# Altium integrated library Linear Technology Power Management Supercapacitor Chargers.IntLib: 96 symbols (part 1 of 8)
Pins are listed as number, name and electrical type; pins without a type are passive.

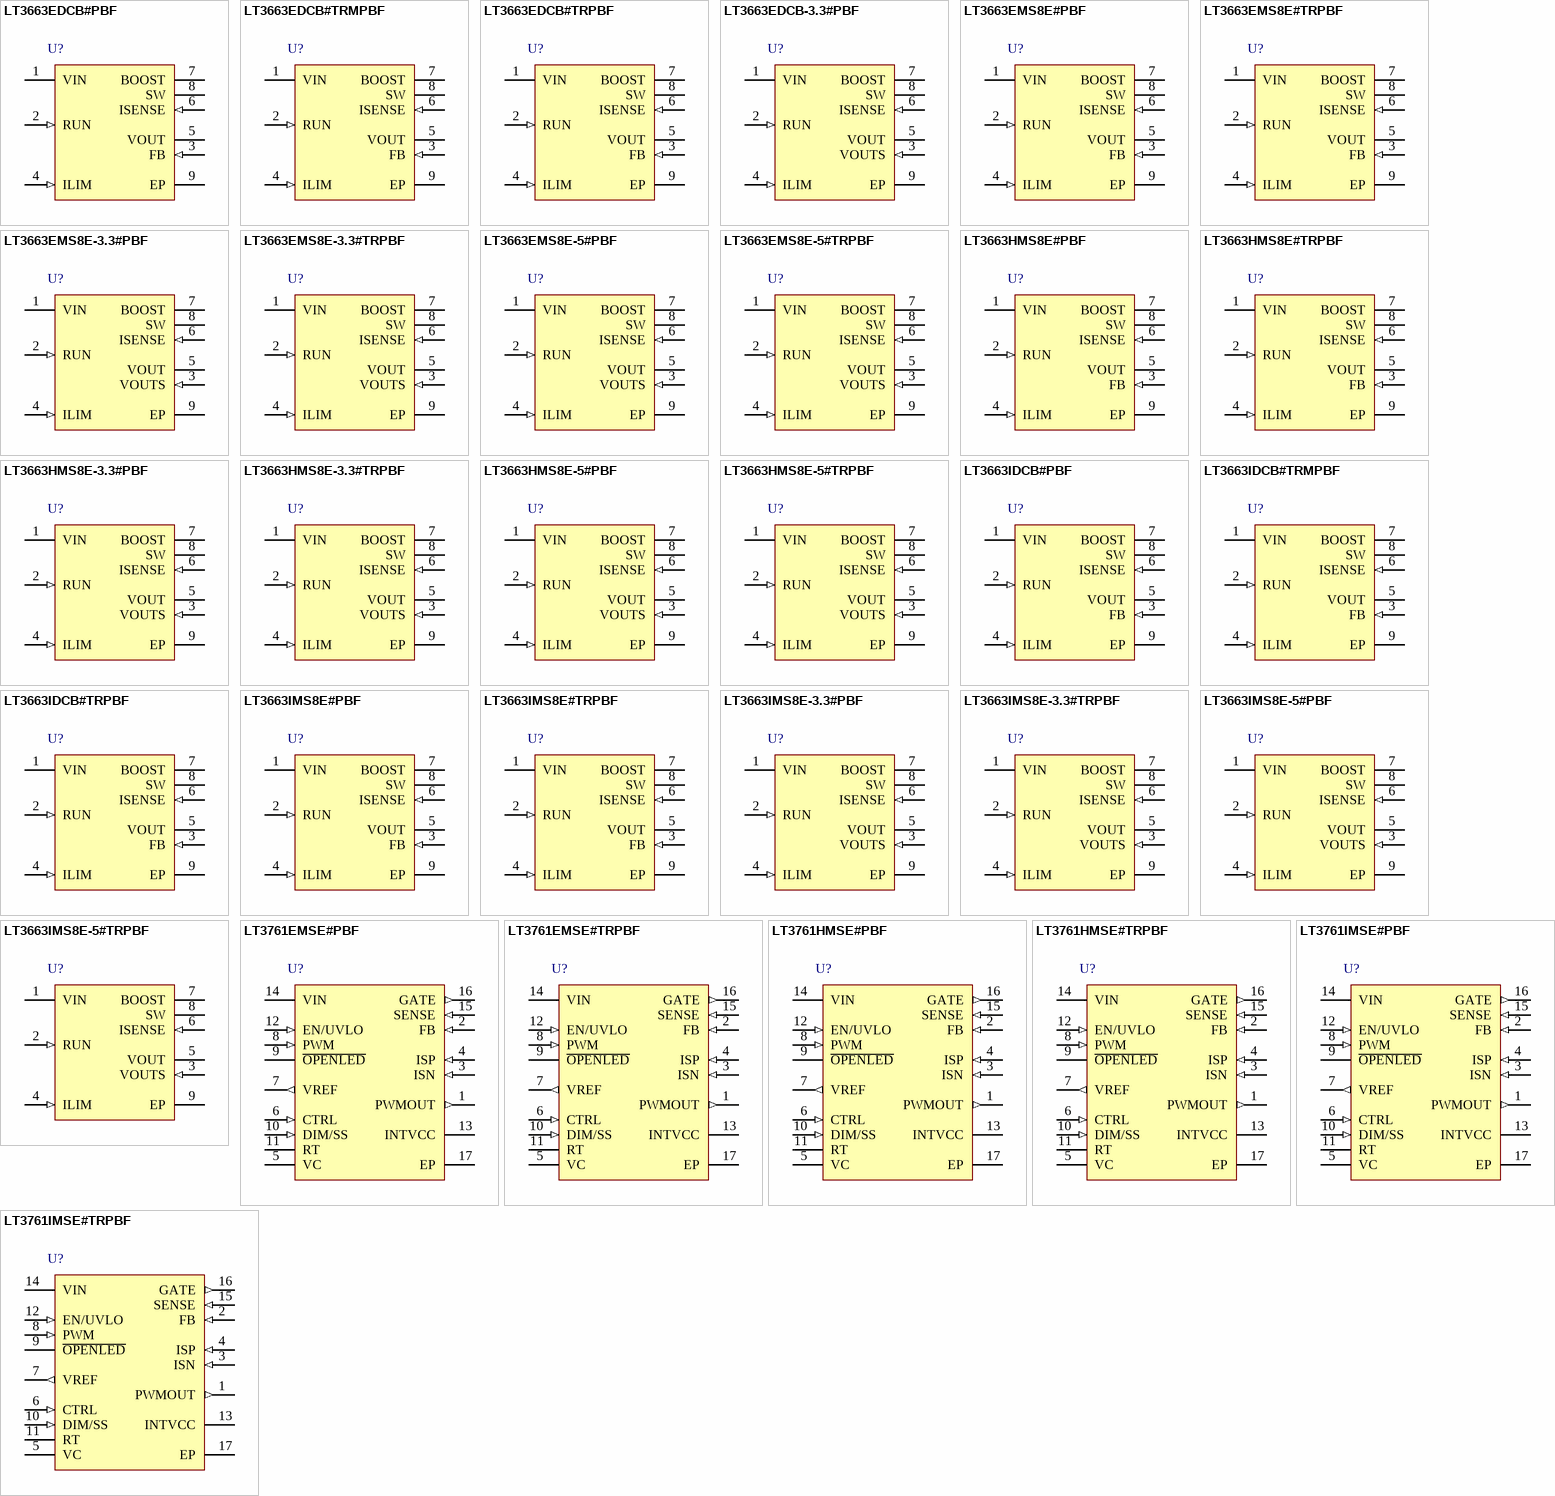
[diagram p0: symbols LT3663EDCB#PBF to LT3761IMSE#TRPBF]

## LT3663EDCB#PBF
designator U?
1.2 A, 1.5 MHz Step-Down Switching Regulator with Output Current Limit, 7 to 36 V Vin, 5.5 V Vout MAX, 8-pin SON (DCB-8), -40 to 125 degC, Pb-Free; Manufacturer: Linear Technology; PartNumber: LT3663EDCB#PBF; Output Current(A): 1.2; Topology: Buck; DatasheetVersion: Rev. C; PackageVersion: Rev. A, 06/2010; PackageReference: DCB-8; PackageDescription: 8-Pin Plastic DFN, Body 2 x 3 mm, Pitch 0.45 mm; RoHS: TRUE; Mounting Technology: Surface Mount; ComponentLink1Description: Manufacturer URL; ComponentLink1URL: http://www.linear.com/; ComponentLink2Description: Datasheet; ComponentLink2URL: http://cds.linear.com/docs/en/datasheet/3663fc.pdf; ComponentLink3Description: Package Specification; ComponentLink3URL: http://cds.linear.com/docs/en/packaging/DFN_8_05-08-1718.pdf
footprint LT-DCB-8_V (SON, 8-Leads, Body 3x2mm, Pitch 0.45mm, Thermal Pad 1.65x1.35mm)
pins: 1 VIN (power) "The VIN pin supplies current to the LT3663’s internal regulator and internal power switch. Capacitively bypass the pin to ground.", 2 RUN (in) "The Run pin is used to put the LT3663 into shutdown mode. Tie to ground to shut down the LT3663. Tie to 2.5V or more for normal operation. If the shutdown feature is not used, connect this pin to VIN.", 3 FB (in) "The LT3663 regulates the FB pin to 0.8V. Connect the feedback resistor divider tap to this pin.", 4 ILIM (in) "Output Current Limit Program Pin. Connect a resistor to ground to program the regulator output current limit.", 5 VOUT (power) "The VOUT pin is connected to the negative terminal of the internal output current limit sense resistor.", 6 ISENSE (in) "The ISENSE pin is the positive input to the internal output current limit sense resistor. The ISENSE pin is also the anode to the internal BOOST diode.", 7 BOOST "The BOOST pin is used to provide a drive voltage, higher than the input voltage, to the internal power switch. The BOOST pin is also internally connected to the cathode of the BOOST diode.", 8 SW "The SW pin is the output of the internal power switch. Connect this pin to the inductor, catch diode and boost capacitor.", 9 EP (power) "Ground. The exposed pad must be soldered to the PCB and electrically connected to ground. Use a large ground plane and thermal vias to optimize thermal performance."

## LT3663EDCB#TRMPBF
designator U?
1.2 A, 1.5 MHz Step-Down Switching Regulator with Output Current Limit, 7 to 36 V Vin, 5.5 V Vout MAX, 8-pin SON (DCB-8), -40 to 125 degC, Pb-Free, Mini Tape and Reel; Manufacturer: Linear Technology; PartNumber: LT3663EDCB#TRMPBF; Output Current(A): 1.2; Topology: Buck; DatasheetVersion: Rev. C; PackageVersion: Rev. A, 06/2010; PackageReference: DCB-8; PackageDescription: 8-Pin Plastic DFN, Body 2 x 3 mm, Pitch 0.45 mm; Supplier 1: Digi-Key; Supplier Part Number 1: LT3663EDCB#TRMPBFTR-ND; Supplier 2: Digi-Key; Supplier Part Number 2: LT3663EDCB#TRMPBFCT-ND; Supplier 3: Digi-Key; Supplier Part Number 3: LT3663EDCB#TRMPBFDKR-ND; Packing: Mini Tape and Reel; RoHS: TRUE; Mounting Technology: Surface Mount; ComponentLink1Description: Manufacturer URL; ComponentLink1URL: http://www.linear.com/; ComponentLink2Description: Datasheet; ComponentLink2URL: http://cds.linear.com/docs/en/datasheet/3663fc.pdf; ComponentLink3Description: Package Specification; ComponentLink3URL: http://cds.linear.com/docs/en/packaging/DFN_8_05-08-1718.pdf
footprint LT-DCB-8_V (SON, 8-Leads, Body 3x2mm, Pitch 0.45mm, Thermal Pad 1.65x1.35mm)
pins: 1 VIN (power) "The VIN pin supplies current to the LT3663’s internal regulator and internal power switch. Capacitively bypass the pin to ground.", 2 RUN (in) "The Run pin is used to put the LT3663 into shutdown mode. Tie to ground to shut down the LT3663. Tie to 2.5V or more for normal operation. If the shutdown feature is not used, connect this pin to VIN.", 3 FB (in) "The LT3663 regulates the FB pin to 0.8V. Connect the feedback resistor divider tap to this pin.", 4 ILIM (in) "Output Current Limit Program Pin. Connect a resistor to ground to program the regulator output current limit.", 5 VOUT (power) "The VOUT pin is connected to the negative terminal of the internal output current limit sense resistor.", 6 ISENSE (in) "The ISENSE pin is the positive input to the internal output current limit sense resistor. The ISENSE pin is also the anode to the internal BOOST diode.", 7 BOOST "The BOOST pin is used to provide a drive voltage, higher than the input voltage, to the internal power switch. The BOOST pin is also internally connected to the cathode of the BOOST diode.", 8 SW "The SW pin is the output of the internal power switch. Connect this pin to the inductor, catch diode and boost capacitor.", 9 EP (power) "Ground. The exposed pad must be soldered to the PCB and electrically connected to ground. Use a large ground plane and thermal vias to optimize thermal performance."

## LT3663EDCB#TRPBF
designator U?
1.2 A, 1.5 MHz Step-Down Switching Regulator with Output Current Limit, 7 to 36 V Vin, 5.5 V Vout MAX, 8-pin SON (DCB-8), -40 to 125 degC, Pb-Free, Tape and Reel; Manufacturer: Linear Technology; PartNumber: LT3663EDCB#TRPBF; Output Current(A): 1.2; Topology: Buck; DatasheetVersion: Rev. C; PackageVersion: Rev. A, 06/2010; PackageReference: DCB-8; PackageDescription: 8-Pin Plastic DFN, Body 2 x 3 mm, Pitch 0.45 mm; Supplier 1: Digi-Key; Supplier Part Number 1: LT3663EDCB#TRPBF-ND; Packing: Tape and Reel; RoHS: TRUE; Mounting Technology: Surface Mount; ComponentLink1Description: Manufacturer URL; ComponentLink1URL: http://www.linear.com/; ComponentLink2Description: Datasheet; ComponentLink2URL: http://cds.linear.com/docs/en/datasheet/3663fc.pdf; ComponentLink3Description: Package Specification; ComponentLink3URL: http://cds.linear.com/docs/en/packaging/DFN_8_05-08-1718.pdf
footprint LT-DCB-8_V (SON, 8-Leads, Body 3x2mm, Pitch 0.45mm, Thermal Pad 1.65x1.35mm)
pins: 1 VIN (power) "The VIN pin supplies current to the LT3663’s internal regulator and internal power switch. Capacitively bypass the pin to ground.", 2 RUN (in) "The Run pin is used to put the LT3663 into shutdown mode. Tie to ground to shut down the LT3663. Tie to 2.5V or more for normal operation. If the shutdown feature is not used, connect this pin to VIN.", 3 FB (in) "The LT3663 regulates the FB pin to 0.8V. Connect the feedback resistor divider tap to this pin.", 4 ILIM (in) "Output Current Limit Program Pin. Connect a resistor to ground to program the regulator output current limit.", 5 VOUT (power) "The VOUT pin is connected to the negative terminal of the internal output current limit sense resistor.", 6 ISENSE (in) "The ISENSE pin is the positive input to the internal output current limit sense resistor. The ISENSE pin is also the anode to the internal BOOST diode.", 7 BOOST "The BOOST pin is used to provide a drive voltage, higher than the input voltage, to the internal power switch. The BOOST pin is also internally connected to the cathode of the BOOST diode.", 8 SW "The SW pin is the output of the internal power switch. Connect this pin to the inductor, catch diode and boost capacitor.", 9 EP (power) "Ground. The exposed pad must be soldered to the PCB and electrically connected to ground. Use a large ground plane and thermal vias to optimize thermal performance."

## LT3663EDCB-3.3#PBF
designator U?
1.2 A, 1.5 MHz Step-Down Switching Regulator with Output Current Limit, 7 to 36 V Vin, 3.3 V Vout MAX, 8-pin SON (DCB-8), -40 to 125 degC, Pb-Free; Manufacturer: Linear Technology; PartNumber: LT3663EDCB-3.3#PBF; Output Current(A): 1.2; Topology: Buck; DatasheetVersion: Rev. C; PackageVersion: Rev. A, 06/2010; PackageReference: DCB-8; PackageDescription: 8-Pin Plastic DFN, Body 2 x 3 mm, Pitch 0.45 mm; RoHS: TRUE; Mounting Technology: Surface Mount; ComponentLink1Description: Manufacturer URL; ComponentLink1URL: http://www.linear.com/; ComponentLink2Description: Datasheet; ComponentLink2URL: http://cds.linear.com/docs/en/datasheet/3663fc.pdf; ComponentLink3Description: Package Specification; ComponentLink3URL: http://cds.linear.com/docs/en/packaging/DFN_8_05-08-1718.pdf
footprint LT-DCB-8_V (SON, 8-Leads, Body 3x2mm, Pitch 0.45mm, Thermal Pad 1.65x1.35mm)
pins: 1 VIN (power) "The VIN pin supplies current to the LT3663’s internal regulator and internal power switch. Capacitively bypass the pin to ground.", 2 RUN (in) "The Run pin is used to put the LT3663 into shutdown mode. Tie to ground to shut down the LT3663. Tie to 2.5V or more for normal operation. If the shutdown feature is not used, connect this pin to VIN.", 3 VOUTS (in) "Output Voltage Sense Pin. Connect to the positive terminal of the output capacitor.", 4 ILIM (in) "Output Current Limit Program Pin. Connect a resistor to ground to program the regulator output current limit.", 5 VOUT (power) "The VOUT pin is connected to the negative terminal of the internal output current limit sense resistor.", 6 ISENSE (in) "The ISENSE pin is the positive input to the internal output current limit sense resistor. The ISENSE pin is also the anode to the internal BOOST diode.", 7 BOOST "The BOOST pin is used to provide a drive voltage, higher than the input voltage, to the internal power switch. The BOOST pin is also internally connected to the cathode of the BOOST diode.", 8 SW "The SW pin is the output of the internal power switch. Connect this pin to the inductor, catch diode and boost capacitor.", 9 EP (power) "Ground. The exposed pad must be soldered to the PCB and electrically connected to ground. Use a large ground plane and thermal vias to optimize thermal performance."

## LT3663EMS8E#PBF
designator U?
1.2 A, 1.5 MHz Step-Down Switching Regulator with Output Current Limit, 7 to 36 V Vin, 5.5 V Vout MAX, 8-pin SOP (MS8E-8-EDP), -40 to 125 degC, Pb-Free; Manufacturer: Linear Technology; PartNumber: LT3663EMS8E#PBF; Output Current(A): 1.2; Topology: Buck; DatasheetVersion: Rev. C; PackageVersion: Rev. J, 10/2011; PackageReference: MS8E-8; PackageDescription: 8-Pin Plastic MSOP, Body 3.00 x 3.00 mm. Pitch 0.65 mm; Supplier 1: Digi-Key; Supplier Part Number 1: LT3663EMS8E#PBF-ND; Supplier 2: Farnell; Supplier Part Number 2: 1839230; Supplier 3: Newark; Supplier Part Number 3: 51R1540; RoHS: TRUE; Mounting Technology: Surface Mount; ComponentLink1Description: Manufacturer URL; ComponentLink1URL: http://www.linear.com/; ComponentLink2Description: Datasheet; ComponentLink2URL: http://cds.linear.com/docs/en/datasheet/3663fc.pdf; ComponentLink3Description: Package Specification; ComponentLink3URL: http://cds.linear.com/docs/en/packaging/05081662_K_MS8E.pdf
footprint LT-MS8E-8-EDP_N (SOP, 8-Leads, Body 3.1x3.1mm, Pitch 0.65mm, Thermal Pad 1.88x1.68mm, IPC Medium Density)
footprint LT-MS8E-8-EDP_L (SOP, 8-Leads, Body 3.1x3.1mm, Pitch 0.65mm, Thermal Pad 1.88x1.68mm, IPC High Density)
footprint LT-MS8E-8-EDP_M (SOP, 8-Leads, Body 3.1x3.1mm, Pitch 0.65mm, Thermal Pad 1.88x1.68mm, IPC Low Density)
pins: 1 VIN (power) "The VIN pin supplies current to the LT3663’s internal regulator and internal power switch. Capacitively bypass the pin to ground.", 2 RUN (in) "The Run pin is used to put the LT3663 into shutdown mode. Tie to ground to shut down the LT3663. Tie to 2.5V or more for normal operation. If the shutdown feature is not used, connect this pin to VIN.", 3 FB (in) "The LT3663 regulates the FB pin to 0.8V. Connect the feedback resistor divider tap to this pin.", 4 ILIM (in) "Output Current Limit Program Pin. Connect a resistor to ground to program the regulator output current limit.", 5 VOUT (power) "The VOUT pin is connected to the negative terminal of the internal output current limit sense resistor.", 6 ISENSE (in) "The ISENSE pin is the positive input to the internal output current limit sense resistor. The ISENSE pin is also the anode to the internal BOOST diode.", 7 BOOST "The BOOST pin is used to provide a drive voltage, higher than the input voltage, to the internal power switch. The BOOST pin is also internally connected to the cathode of the BOOST diode.", 8 SW "The SW pin is the output of the internal power switch. Connect this pin to the inductor, catch diode and boost capacitor.", 9 EP (power) "Ground. The exposed pad must be soldered to the PCB and electrically connected to ground. Use a large ground plane and thermal vias to optimize thermal performance."

## LT3663EMS8E#TRPBF
designator U?
1.2 A, 1.5 MHz Step-Down Switching Regulator with Output Current Limit, 7 to 36 V Vin, 5.5 V Vout MAX, 8-pin SOP (MS8E-8-EDP), -40 to 125 degC, Pb-Free, Tape and Reel; Manufacturer: Linear Technology; PartNumber: LT3663EMS8E#TRPBF; Output Current(A): 1.2; Topology: Buck; DatasheetVersion: Rev. C; PackageVersion: Rev. J, 10/2011; PackageReference: MS8E-8; PackageDescription: 8-Pin Plastic MSOP, Body 3.00 x 3.00 mm. Pitch 0.65 mm; Supplier 1: Digi-Key; Supplier Part Number 1: LT3663EMS8E#TRPBF-ND; Packing: Tape and Reel; RoHS: TRUE; Mounting Technology: Surface Mount; ComponentLink1Description: Manufacturer URL; ComponentLink1URL: http://www.linear.com/; ComponentLink2Description: Datasheet; ComponentLink2URL: http://cds.linear.com/docs/en/datasheet/3663fc.pdf; ComponentLink3Description: Package Specification; ComponentLink3URL: http://cds.linear.com/docs/en/packaging/05081662_K_MS8E.pdf
footprint LT-MS8E-8-EDP_N (SOP, 8-Leads, Body 3.1x3.1mm, Pitch 0.65mm, Thermal Pad 1.88x1.68mm, IPC Medium Density)
footprint LT-MS8E-8-EDP_L (SOP, 8-Leads, Body 3.1x3.1mm, Pitch 0.65mm, Thermal Pad 1.88x1.68mm, IPC High Density)
footprint LT-MS8E-8-EDP_M (SOP, 8-Leads, Body 3.1x3.1mm, Pitch 0.65mm, Thermal Pad 1.88x1.68mm, IPC Low Density)
pins: 1 VIN (power) "The VIN pin supplies current to the LT3663’s internal regulator and internal power switch. Capacitively bypass the pin to ground.", 2 RUN (in) "The Run pin is used to put the LT3663 into shutdown mode. Tie to ground to shut down the LT3663. Tie to 2.5V or more for normal operation. If the shutdown feature is not used, connect this pin to VIN.", 3 FB (in) "The LT3663 regulates the FB pin to 0.8V. Connect the feedback resistor divider tap to this pin.", 4 ILIM (in) "Output Current Limit Program Pin. Connect a resistor to ground to program the regulator output current limit.", 5 VOUT (power) "The VOUT pin is connected to the negative terminal of the internal output current limit sense resistor.", 6 ISENSE (in) "The ISENSE pin is the positive input to the internal output current limit sense resistor. The ISENSE pin is also the anode to the internal BOOST diode.", 7 BOOST "The BOOST pin is used to provide a drive voltage, higher than the input voltage, to the internal power switch. The BOOST pin is also internally connected to the cathode of the BOOST diode.", 8 SW "The SW pin is the output of the internal power switch. Connect this pin to the inductor, catch diode and boost capacitor.", 9 EP (power) "Ground. The exposed pad must be soldered to the PCB and electrically connected to ground. Use a large ground plane and thermal vias to optimize thermal performance."

## LT3663EMS8E-3.3#PBF
designator U?
1.2 A, 1.5 MHz Step-Down Switching Regulator with Output Current Limit, 7 to 36 V Vin, 3.3 V Vout MAX, 8-pin SOP (MS8E-8-EDP), -40 to 125 degC, Pb-Free; Manufacturer: Linear Technology; PartNumber: LT3663EMS8E-3.3#PBF; Output Current(A): 1.2; Topology: Buck; DatasheetVersion: Rev. C; PackageVersion: Rev. J, 10/2011; PackageReference: MS8E-8; PackageDescription: 8-Pin Plastic MSOP, Body 3.00 x 3.00 mm. Pitch 0.65 mm; Supplier 1: Digi-Key; Supplier Part Number 1: LT3663EMS8E-3.3#PBF-ND; Supplier 2: Farnell; Supplier Part Number 2: 1839231; Supplier 3: Newark; Supplier Part Number 3: 51R1538; RoHS: TRUE; Mounting Technology: Surface Mount; ComponentLink1Description: Manufacturer URL; ComponentLink1URL: http://www.linear.com/; ComponentLink2Description: Datasheet; ComponentLink2URL: http://cds.linear.com/docs/en/datasheet/3663fc.pdf; ComponentLink3Description: Package Specification; ComponentLink3URL: http://cds.linear.com/docs/en/packaging/05081662_K_MS8E.pdf
footprint LT-MS8E-8-EDP_N (SOP, 8-Leads, Body 3.1x3.1mm, Pitch 0.65mm, Thermal Pad 1.88x1.68mm, IPC Medium Density)
footprint LT-MS8E-8-EDP_L (SOP, 8-Leads, Body 3.1x3.1mm, Pitch 0.65mm, Thermal Pad 1.88x1.68mm, IPC High Density)
footprint LT-MS8E-8-EDP_M (SOP, 8-Leads, Body 3.1x3.1mm, Pitch 0.65mm, Thermal Pad 1.88x1.68mm, IPC Low Density)
pins: 1 VIN (power) "The VIN pin supplies current to the LT3663’s internal regulator and internal power switch. Capacitively bypass the pin to ground.", 2 RUN (in) "The Run pin is used to put the LT3663 into shutdown mode. Tie to ground to shut down the LT3663. Tie to 2.5V or more for normal operation. If the shutdown feature is not used, connect this pin to VIN.", 3 VOUTS (in) "Output Voltage Sense Pin. Connect to the positive terminal of the output capacitor.", 4 ILIM (in) "Output Current Limit Program Pin. Connect a resistor to ground to program the regulator output current limit.", 5 VOUT (power) "The VOUT pin is connected to the negative terminal of the internal output current limit sense resistor.", 6 ISENSE (in) "The ISENSE pin is the positive input to the internal output current limit sense resistor. The ISENSE pin is also the anode to the internal BOOST diode.", 7 BOOST "The BOOST pin is used to provide a drive voltage, higher than the input voltage, to the internal power switch. The BOOST pin is also internally connected to the cathode of the BOOST diode.", 8 SW "The SW pin is the output of the internal power switch. Connect this pin to the inductor, catch diode and boost capacitor.", 9 EP (power) "Ground. The exposed pad must be soldered to the PCB and electrically connected to ground. Use a large ground plane and thermal vias to optimize thermal performance."

## LT3663EMS8E-3.3#TRPBF
designator U?
1.2 A, 1.5 MHz Step-Down Switching Regulator with Output Current Limit, 7 to 36 V Vin, 3.3 V Vout MAX, 8-pin SOP (MS8E-8-EDP), -40 to 125 degC, Pb-Free, Tape and Reel; Manufacturer: Linear Technology; PartNumber: LT3663EMS8E-3.3#TRPBF; Output Current(A): 1.2; Topology: Buck; DatasheetVersion: Rev. C; PackageVersion: Rev. J, 10/2011; PackageReference: MS8E-8; PackageDescription: 8-Pin Plastic MSOP, Body 3.00 x 3.00 mm. Pitch 0.65 mm; Supplier 1: Digi-Key; Supplier Part Number 1: LT3663EMS8E-3.3#TRPBF-ND; Packing: Tape and Reel; RoHS: TRUE; Mounting Technology: Surface Mount; ComponentLink1Description: Manufacturer URL; ComponentLink1URL: http://www.linear.com/; ComponentLink2Description: Datasheet; ComponentLink2URL: http://cds.linear.com/docs/en/datasheet/3663fc.pdf; ComponentLink3Description: Package Specification; ComponentLink3URL: http://cds.linear.com/docs/en/packaging/05081662_K_MS8E.pdf
footprint LT-MS8E-8-EDP_N (SOP, 8-Leads, Body 3.1x3.1mm, Pitch 0.65mm, Thermal Pad 1.88x1.68mm, IPC Medium Density)
footprint LT-MS8E-8-EDP_L (SOP, 8-Leads, Body 3.1x3.1mm, Pitch 0.65mm, Thermal Pad 1.88x1.68mm, IPC High Density)
footprint LT-MS8E-8-EDP_M (SOP, 8-Leads, Body 3.1x3.1mm, Pitch 0.65mm, Thermal Pad 1.88x1.68mm, IPC Low Density)
pins: 1 VIN (power) "The VIN pin supplies current to the LT3663’s internal regulator and internal power switch. Capacitively bypass the pin to ground.", 2 RUN (in) "The Run pin is used to put the LT3663 into shutdown mode. Tie to ground to shut down the LT3663. Tie to 2.5V or more for normal operation. If the shutdown feature is not used, connect this pin to VIN.", 3 VOUTS (in) "Output Voltage Sense Pin. Connect to the positive terminal of the output capacitor.", 4 ILIM (in) "Output Current Limit Program Pin. Connect a resistor to ground to program the regulator output current limit.", 5 VOUT (power) "The VOUT pin is connected to the negative terminal of the internal output current limit sense resistor.", 6 ISENSE (in) "The ISENSE pin is the positive input to the internal output current limit sense resistor. The ISENSE pin is also the anode to the internal BOOST diode.", 7 BOOST "The BOOST pin is used to provide a drive voltage, higher than the input voltage, to the internal power switch. The BOOST pin is also internally connected to the cathode of the BOOST diode.", 8 SW "The SW pin is the output of the internal power switch. Connect this pin to the inductor, catch diode and boost capacitor.", 9 EP (power) "Ground. The exposed pad must be soldered to the PCB and electrically connected to ground. Use a large ground plane and thermal vias to optimize thermal performance."

## LT3663EMS8E-5#PBF
designator U?
1.2 A, 1.5 MHz Step-Down Switching Regulator with Output Current Limit, 7 to 36 V Vin, 5 V Vout MAX, 8-pin SOP (MS8E-8-EDP), -40 to 125 degC, Pb-Free; Manufacturer: Linear Technology; PartNumber: LT3663EMS8E-5#PBF; Output Current(A): 1.2; Topology: Buck; DatasheetVersion: Rev. C; PackageVersion: Rev. J, 10/2011; PackageReference: MS8E-8; PackageDescription: 8-Pin Plastic MSOP, Body 3.00 x 3.00 mm. Pitch 0.65 mm; Supplier 1: Digi-Key; Supplier Part Number 1: LT3663EMS8E-5#PBF-ND; Supplier 2: Farnell; Supplier Part Number 2: 1839232; Supplier 3: Newark; Supplier Part Number 3: 51R1539; RoHS: TRUE; Mounting Technology: Surface Mount; ComponentLink1Description: Manufacturer URL; ComponentLink1URL: http://www.linear.com/; ComponentLink2Description: Datasheet; ComponentLink2URL: http://cds.linear.com/docs/en/datasheet/3663fc.pdf; ComponentLink3Description: Package Specification; ComponentLink3URL: http://cds.linear.com/docs/en/packaging/05081662_K_MS8E.pdf
footprint LT-MS8E-8-EDP_N (SOP, 8-Leads, Body 3.1x3.1mm, Pitch 0.65mm, Thermal Pad 1.88x1.68mm, IPC Medium Density)
footprint LT-MS8E-8-EDP_L (SOP, 8-Leads, Body 3.1x3.1mm, Pitch 0.65mm, Thermal Pad 1.88x1.68mm, IPC High Density)
footprint LT-MS8E-8-EDP_M (SOP, 8-Leads, Body 3.1x3.1mm, Pitch 0.65mm, Thermal Pad 1.88x1.68mm, IPC Low Density)
pins: 1 VIN (power) "The VIN pin supplies current to the LT3663’s internal regulator and internal power switch. Capacitively bypass the pin to ground.", 2 RUN (in) "The Run pin is used to put the LT3663 into shutdown mode. Tie to ground to shut down the LT3663. Tie to 2.5V or more for normal operation. If the shutdown feature is not used, connect this pin to VIN.", 3 VOUTS (in) "Output Voltage Sense Pin. Connect to the positive terminal of the output capacitor.", 4 ILIM (in) "Output Current Limit Program Pin. Connect a resistor to ground to program the regulator output current limit.", 5 VOUT (power) "The VOUT pin is connected to the negative terminal of the internal output current limit sense resistor.", 6 ISENSE (in) "The ISENSE pin is the positive input to the internal output current limit sense resistor. The ISENSE pin is also the anode to the internal BOOST diode.", 7 BOOST "The BOOST pin is used to provide a drive voltage, higher than the input voltage, to the internal power switch. The BOOST pin is also internally connected to the cathode of the BOOST diode.", 8 SW "The SW pin is the output of the internal power switch. Connect this pin to the inductor, catch diode and boost capacitor.", 9 EP (power) "Ground. The exposed pad must be soldered to the PCB and electrically connected to ground. Use a large ground plane and thermal vias to optimize thermal performance."

## LT3663EMS8E-5#TRPBF
designator U?
1.2 A, 1.5 MHz Step-Down Switching Regulator with Output Current Limit, 7 to 36 V Vin, 5 V Vout MAX, 8-pin SOP (MS8E-8-EDP), -40 to 125 degC, Pb-Free, Tape and Reel; Manufacturer: Linear Technology; PartNumber: LT3663EMS8E-5#TRPBF; Output Current(A): 1.2; Topology: Buck; DatasheetVersion: Rev. C; PackageVersion: Rev. J, 10/2011; PackageReference: MS8E-8; PackageDescription: 8-Pin Plastic MSOP, Body 3.00 x 3.00 mm. Pitch 0.65 mm; Supplier 1: Digi-Key; Supplier Part Number 1: LT3663EMS8E-5#TRPBF-ND; Packing: Tape and Reel; RoHS: TRUE; Mounting Technology: Surface Mount; ComponentLink1Description: Manufacturer URL; ComponentLink1URL: http://www.linear.com/; ComponentLink2Description: Datasheet; ComponentLink2URL: http://cds.linear.com/docs/en/datasheet/3663fc.pdf; ComponentLink3Description: Package Specification; ComponentLink3URL: http://cds.linear.com/docs/en/packaging/05081662_K_MS8E.pdf
footprint LT-MS8E-8-EDP_N (SOP, 8-Leads, Body 3.1x3.1mm, Pitch 0.65mm, Thermal Pad 1.88x1.68mm, IPC Medium Density)
footprint LT-MS8E-8-EDP_L (SOP, 8-Leads, Body 3.1x3.1mm, Pitch 0.65mm, Thermal Pad 1.88x1.68mm, IPC High Density)
footprint LT-MS8E-8-EDP_M (SOP, 8-Leads, Body 3.1x3.1mm, Pitch 0.65mm, Thermal Pad 1.88x1.68mm, IPC Low Density)
pins: 1 VIN (power) "The VIN pin supplies current to the LT3663’s internal regulator and internal power switch. Capacitively bypass the pin to ground.", 2 RUN (in) "The Run pin is used to put the LT3663 into shutdown mode. Tie to ground to shut down the LT3663. Tie to 2.5V or more for normal operation. If the shutdown feature is not used, connect this pin to VIN.", 3 VOUTS (in) "Output Voltage Sense Pin. Connect to the positive terminal of the output capacitor.", 4 ILIM (in) "Output Current Limit Program Pin. Connect a resistor to ground to program the regulator output current limit.", 5 VOUT (power) "The VOUT pin is connected to the negative terminal of the internal output current limit sense resistor.", 6 ISENSE (in) "The ISENSE pin is the positive input to the internal output current limit sense resistor. The ISENSE pin is also the anode to the internal BOOST diode.", 7 BOOST "The BOOST pin is used to provide a drive voltage, higher than the input voltage, to the internal power switch. The BOOST pin is also internally connected to the cathode of the BOOST diode.", 8 SW "The SW pin is the output of the internal power switch. Connect this pin to the inductor, catch diode and boost capacitor.", 9 EP (power) "Ground. The exposed pad must be soldered to the PCB and electrically connected to ground. Use a large ground plane and thermal vias to optimize thermal performance."

## LT3663HMS8E#PBF
designator U?
1.2 A, 1.5 MHz Step-Down Switching Regulator with Output Current Limit, 7 to 36 V Vin, 5.5 V Vout MAX, 8-pin SOP (MS8E-8-EDP), -40 to 150 degC, Pb-Free; Manufacturer: Linear Technology; PartNumber: LT3663HMS8E#PBF; Output Current(A): 1.2; Topology: Buck; DatasheetVersion: Rev. C; PackageVersion: Rev. J, 10/2011; PackageReference: MS8E-8; PackageDescription: 8-Pin Plastic MSOP, Body 3.00 x 3.00 mm. Pitch 0.65 mm; Supplier 1: Digi-Key; Supplier Part Number 1: LT3663HMS8E#PBF-ND; Supplier 2: Newark; Supplier Part Number 2: 51R1543; RoHS: TRUE; Mounting Technology: Surface Mount; ComponentLink1Description: Manufacturer URL; ComponentLink1URL: http://www.linear.com/; ComponentLink2Description: Datasheet; ComponentLink2URL: http://cds.linear.com/docs/en/datasheet/3663fc.pdf; ComponentLink3Description: Package Specification; ComponentLink3URL: http://cds.linear.com/docs/en/packaging/05081662_K_MS8E.pdf
footprint LT-MS8E-8-EDP_N (SOP, 8-Leads, Body 3.1x3.1mm, Pitch 0.65mm, Thermal Pad 1.88x1.68mm, IPC Medium Density)
footprint LT-MS8E-8-EDP_L (SOP, 8-Leads, Body 3.1x3.1mm, Pitch 0.65mm, Thermal Pad 1.88x1.68mm, IPC High Density)
footprint LT-MS8E-8-EDP_M (SOP, 8-Leads, Body 3.1x3.1mm, Pitch 0.65mm, Thermal Pad 1.88x1.68mm, IPC Low Density)
pins: 1 VIN (power) "The VIN pin supplies current to the LT3663’s internal regulator and internal power switch. Capacitively bypass the pin to ground.", 2 RUN (in) "The Run pin is used to put the LT3663 into shutdown mode. Tie to ground to shut down the LT3663. Tie to 2.5V or more for normal operation. If the shutdown feature is not used, connect this pin to VIN.", 3 FB (in) "The LT3663 regulates the FB pin to 0.8V. Connect the feedback resistor divider tap to this pin.", 4 ILIM (in) "Output Current Limit Program Pin. Connect a resistor to ground to program the regulator output current limit.", 5 VOUT (power) "The VOUT pin is connected to the negative terminal of the internal output current limit sense resistor.", 6 ISENSE (in) "The ISENSE pin is the positive input to the internal output current limit sense resistor. The ISENSE pin is also the anode to the internal BOOST diode.", 7 BOOST "The BOOST pin is used to provide a drive voltage, higher than the input voltage, to the internal power switch. The BOOST pin is also internally connected to the cathode of the BOOST diode.", 8 SW "The SW pin is the output of the internal power switch. Connect this pin to the inductor, catch diode and boost capacitor.", 9 EP (power) "Ground. The exposed pad must be soldered to the PCB and electrically connected to ground. Use a large ground plane and thermal vias to optimize thermal performance."

## LT3663HMS8E#TRPBF
designator U?
1.2 A, 1.5 MHz Step-Down Switching Regulator with Output Current Limit, 7 to 36 V Vin, 5.5 V Vout MAX, 8-pin SOP (MS8E-8-EDP), -40 to 150 degC, Pb-Free, Tape and Reel; Manufacturer: Linear Technology; PartNumber: LT3663HMS8E#TRPBF; Output Current(A): 1.2; Topology: Buck; DatasheetVersion: Rev. C; PackageVersion: Rev. J, 10/2011; PackageReference: MS8E-8; PackageDescription: 8-Pin Plastic MSOP, Body 3.00 x 3.00 mm. Pitch 0.65 mm; Supplier 1: Digi-Key; Supplier Part Number 1: LT3663HMS8E#TRPBF-ND; Packing: Tape and Reel; RoHS: TRUE; Mounting Technology: Surface Mount; ComponentLink1Description: Manufacturer URL; ComponentLink1URL: http://www.linear.com/; ComponentLink2Description: Datasheet; ComponentLink2URL: http://cds.linear.com/docs/en/datasheet/3663fc.pdf; ComponentLink3Description: Package Specification; ComponentLink3URL: http://cds.linear.com/docs/en/packaging/05081662_K_MS8E.pdf
footprint LT-MS8E-8-EDP_N (SOP, 8-Leads, Body 3.1x3.1mm, Pitch 0.65mm, Thermal Pad 1.88x1.68mm, IPC Medium Density)
footprint LT-MS8E-8-EDP_L (SOP, 8-Leads, Body 3.1x3.1mm, Pitch 0.65mm, Thermal Pad 1.88x1.68mm, IPC High Density)
footprint LT-MS8E-8-EDP_M (SOP, 8-Leads, Body 3.1x3.1mm, Pitch 0.65mm, Thermal Pad 1.88x1.68mm, IPC Low Density)
pins: 1 VIN (power) "The VIN pin supplies current to the LT3663’s internal regulator and internal power switch. Capacitively bypass the pin to ground.", 2 RUN (in) "The Run pin is used to put the LT3663 into shutdown mode. Tie to ground to shut down the LT3663. Tie to 2.5V or more for normal operation. If the shutdown feature is not used, connect this pin to VIN.", 3 FB (in) "The LT3663 regulates the FB pin to 0.8V. Connect the feedback resistor divider tap to this pin.", 4 ILIM (in) "Output Current Limit Program Pin. Connect a resistor to ground to program the regulator output current limit.", 5 VOUT (power) "The VOUT pin is connected to the negative terminal of the internal output current limit sense resistor.", 6 ISENSE (in) "The ISENSE pin is the positive input to the internal output current limit sense resistor. The ISENSE pin is also the anode to the internal BOOST diode.", 7 BOOST "The BOOST pin is used to provide a drive voltage, higher than the input voltage, to the internal power switch. The BOOST pin is also internally connected to the cathode of the BOOST diode.", 8 SW "The SW pin is the output of the internal power switch. Connect this pin to the inductor, catch diode and boost capacitor.", 9 EP (power) "Ground. The exposed pad must be soldered to the PCB and electrically connected to ground. Use a large ground plane and thermal vias to optimize thermal performance."

## LT3663HMS8E-3.3#PBF
designator U?
1.2 A, 1.5 MHz Step-Down Switching Regulator with Output Current Limit, 7 to 36 V Vin, 3.3 V Vout MAX, 8-pin SOP (MS8E-8-EDP), -40 to 150 degC, Pb-Free; Manufacturer: Linear Technology; PartNumber: LT3663HMS8E-3.3#PBF; Output Current(A): 1.2; Topology: Buck; DatasheetVersion: Rev. C; PackageVersion: Rev. J, 10/2011; PackageReference: MS8E-8; PackageDescription: 8-Pin Plastic MSOP, Body 3.00 x 3.00 mm. Pitch 0.65 mm; Supplier 1: Digi-Key; Supplier Part Number 1: LT3663HMS8E-3.3#PBF-ND; Supplier 2: Newark; Supplier Part Number 2: 51R1541; RoHS: TRUE; Mounting Technology: Surface Mount; ComponentLink1Description: Manufacturer URL; ComponentLink1URL: http://www.linear.com/; ComponentLink2Description: Datasheet; ComponentLink2URL: http://cds.linear.com/docs/en/datasheet/3663fc.pdf; ComponentLink3Description: Package Specification; ComponentLink3URL: http://cds.linear.com/docs/en/packaging/05081662_K_MS8E.pdf
footprint LT-MS8E-8-EDP_N (SOP, 8-Leads, Body 3.1x3.1mm, Pitch 0.65mm, Thermal Pad 1.88x1.68mm, IPC Medium Density)
footprint LT-MS8E-8-EDP_L (SOP, 8-Leads, Body 3.1x3.1mm, Pitch 0.65mm, Thermal Pad 1.88x1.68mm, IPC High Density)
footprint LT-MS8E-8-EDP_M (SOP, 8-Leads, Body 3.1x3.1mm, Pitch 0.65mm, Thermal Pad 1.88x1.68mm, IPC Low Density)
pins: 1 VIN (power) "The VIN pin supplies current to the LT3663’s internal regulator and internal power switch. Capacitively bypass the pin to ground.", 2 RUN (in) "The Run pin is used to put the LT3663 into shutdown mode. Tie to ground to shut down the LT3663. Tie to 2.5V or more for normal operation. If the shutdown feature is not used, connect this pin to VIN.", 3 VOUTS (in) "Output Voltage Sense Pin. Connect to the positive terminal of the output capacitor.", 4 ILIM (in) "Output Current Limit Program Pin. Connect a resistor to ground to program the regulator output current limit.", 5 VOUT (power) "The VOUT pin is connected to the negative terminal of the internal output current limit sense resistor.", 6 ISENSE (in) "The ISENSE pin is the positive input to the internal output current limit sense resistor. The ISENSE pin is also the anode to the internal BOOST diode.", 7 BOOST "The BOOST pin is used to provide a drive voltage, higher than the input voltage, to the internal power switch. The BOOST pin is also internally connected to the cathode of the BOOST diode.", 8 SW "The SW pin is the output of the internal power switch. Connect this pin to the inductor, catch diode and boost capacitor.", 9 EP (power) "Ground. The exposed pad must be soldered to the PCB and electrically connected to ground. Use a large ground plane and thermal vias to optimize thermal performance."

## LT3663HMS8E-3.3#TRPBF
designator U?
1.2 A, 1.5 MHz Step-Down Switching Regulator with Output Current Limit, 7 to 36 V Vin, 3.3 V Vout MAX, 8-pin SOP (MS8E-8-EDP), -40 to 150 degC, Pb-Free, Tape and Reel; Manufacturer: Linear Technology; PartNumber: LT3663HMS8E-3.3#TRPBF; Output Current(A): 1.2; Topology: Buck; DatasheetVersion: Rev. C; PackageVersion: Rev. J, 10/2011; PackageReference: MS8E-8; PackageDescription: 8-Pin Plastic MSOP, Body 3.00 x 3.00 mm. Pitch 0.65 mm; Supplier 1: Digi-Key; Supplier Part Number 1: LT3663HMS8E-3.3#TRPBF-ND; Packing: Tape and Reel; RoHS: TRUE; Mounting Technology: Surface Mount; ComponentLink1Description: Manufacturer URL; ComponentLink1URL: http://www.linear.com/; ComponentLink2Description: Datasheet; ComponentLink2URL: http://cds.linear.com/docs/en/datasheet/3663fc.pdf; ComponentLink3Description: Package Specification; ComponentLink3URL: http://cds.linear.com/docs/en/packaging/05081662_K_MS8E.pdf
footprint LT-MS8E-8-EDP_N (SOP, 8-Leads, Body 3.1x3.1mm, Pitch 0.65mm, Thermal Pad 1.88x1.68mm, IPC Medium Density)
footprint LT-MS8E-8-EDP_L (SOP, 8-Leads, Body 3.1x3.1mm, Pitch 0.65mm, Thermal Pad 1.88x1.68mm, IPC High Density)
footprint LT-MS8E-8-EDP_M (SOP, 8-Leads, Body 3.1x3.1mm, Pitch 0.65mm, Thermal Pad 1.88x1.68mm, IPC Low Density)
pins: 1 VIN (power) "The VIN pin supplies current to the LT3663’s internal regulator and internal power switch. Capacitively bypass the pin to ground.", 2 RUN (in) "The Run pin is used to put the LT3663 into shutdown mode. Tie to ground to shut down the LT3663. Tie to 2.5V or more for normal operation. If the shutdown feature is not used, connect this pin to VIN.", 3 VOUTS (in) "Output Voltage Sense Pin. Connect to the positive terminal of the output capacitor.", 4 ILIM (in) "Output Current Limit Program Pin. Connect a resistor to ground to program the regulator output current limit.", 5 VOUT (power) "The VOUT pin is connected to the negative terminal of the internal output current limit sense resistor.", 6 ISENSE (in) "The ISENSE pin is the positive input to the internal output current limit sense resistor. The ISENSE pin is also the anode to the internal BOOST diode.", 7 BOOST "The BOOST pin is used to provide a drive voltage, higher than the input voltage, to the internal power switch. The BOOST pin is also internally connected to the cathode of the BOOST diode.", 8 SW "The SW pin is the output of the internal power switch. Connect this pin to the inductor, catch diode and boost capacitor.", 9 EP (power) "Ground. The exposed pad must be soldered to the PCB and electrically connected to ground. Use a large ground plane and thermal vias to optimize thermal performance."

## LT3663HMS8E-5#PBF
designator U?
1.2 A, 1.5 MHz Step-Down Switching Regulator with Output Current Limit, 7 to 36 V Vin, 5 V Vout MAX, 8-pin SOP (MS8E-8-EDP), -40 to 150 degC, Pb-Free; Manufacturer: Linear Technology; PartNumber: LT3663HMS8E-5#PBF; Output Current(A): 1.2; Topology: Buck; DatasheetVersion: Rev. C; PackageVersion: Rev. J, 10/2011; PackageReference: MS8E-8; PackageDescription: 8-Pin Plastic MSOP, Body 3.00 x 3.00 mm. Pitch 0.65 mm; Supplier 1: Digi-Key; Supplier Part Number 1: LT3663HMS8E-5#PBF-ND; Supplier 2: Newark; Supplier Part Number 2: 51R1542; RoHS: TRUE; Mounting Technology: Surface Mount; ComponentLink1Description: Manufacturer URL; ComponentLink1URL: http://www.linear.com/; ComponentLink2Description: Datasheet; ComponentLink2URL: http://cds.linear.com/docs/en/datasheet/3663fc.pdf; ComponentLink3Description: Package Specification; ComponentLink3URL: http://cds.linear.com/docs/en/packaging/05081662_K_MS8E.pdf
footprint LT-MS8E-8-EDP_N (SOP, 8-Leads, Body 3.1x3.1mm, Pitch 0.65mm, Thermal Pad 1.88x1.68mm, IPC Medium Density)
footprint LT-MS8E-8-EDP_L (SOP, 8-Leads, Body 3.1x3.1mm, Pitch 0.65mm, Thermal Pad 1.88x1.68mm, IPC High Density)
footprint LT-MS8E-8-EDP_M (SOP, 8-Leads, Body 3.1x3.1mm, Pitch 0.65mm, Thermal Pad 1.88x1.68mm, IPC Low Density)
pins: 1 VIN (power) "The VIN pin supplies current to the LT3663’s internal regulator and internal power switch. Capacitively bypass the pin to ground.", 2 RUN (in) "The Run pin is used to put the LT3663 into shutdown mode. Tie to ground to shut down the LT3663. Tie to 2.5V or more for normal operation. If the shutdown feature is not used, connect this pin to VIN.", 3 VOUTS (in) "Output Voltage Sense Pin. Connect to the positive terminal of the output capacitor.", 4 ILIM (in) "Output Current Limit Program Pin. Connect a resistor to ground to program the regulator output current limit.", 5 VOUT (power) "The VOUT pin is connected to the negative terminal of the internal output current limit sense resistor.", 6 ISENSE (in) "The ISENSE pin is the positive input to the internal output current limit sense resistor. The ISENSE pin is also the anode to the internal BOOST diode.", 7 BOOST "The BOOST pin is used to provide a drive voltage, higher than the input voltage, to the internal power switch. The BOOST pin is also internally connected to the cathode of the BOOST diode.", 8 SW "The SW pin is the output of the internal power switch. Connect this pin to the inductor, catch diode and boost capacitor.", 9 EP (power) "Ground. The exposed pad must be soldered to the PCB and electrically connected to ground. Use a large ground plane and thermal vias to optimize thermal performance."

## LT3663HMS8E-5#TRPBF
designator U?
1.2 A, 1.5 MHz Step-Down Switching Regulator with Output Current Limit, 7 to 36 V Vin, 5 V Vout MAX, 8-pin SOP (MS8E-8-EDP), -40 to 150 degC, Pb-Free, Tape and Reel; Manufacturer: Linear Technology; PartNumber: LT3663HMS8E-5#TRPBF; Output Current(A): 1.2; Topology: Buck; DatasheetVersion: Rev. C; PackageVersion: Rev. J, 10/2011; PackageReference: MS8E-8; PackageDescription: 8-Pin Plastic MSOP, Body 3.00 x 3.00 mm. Pitch 0.65 mm; Supplier 1: Digi-Key; Supplier Part Number 1: LT3663HMS8E-5#TRPBF-ND; Packing: Tape and Reel; RoHS: TRUE; Mounting Technology: Surface Mount; ComponentLink1Description: Manufacturer URL; ComponentLink1URL: http://www.linear.com/; ComponentLink2Description: Datasheet; ComponentLink2URL: http://cds.linear.com/docs/en/datasheet/3663fc.pdf; ComponentLink3Description: Package Specification; ComponentLink3URL: http://cds.linear.com/docs/en/packaging/05081662_K_MS8E.pdf
footprint LT-MS8E-8-EDP_N (SOP, 8-Leads, Body 3.1x3.1mm, Pitch 0.65mm, Thermal Pad 1.88x1.68mm, IPC Medium Density)
footprint LT-MS8E-8-EDP_L (SOP, 8-Leads, Body 3.1x3.1mm, Pitch 0.65mm, Thermal Pad 1.88x1.68mm, IPC High Density)
footprint LT-MS8E-8-EDP_M (SOP, 8-Leads, Body 3.1x3.1mm, Pitch 0.65mm, Thermal Pad 1.88x1.68mm, IPC Low Density)
pins: 1 VIN (power) "The VIN pin supplies current to the LT3663’s internal regulator and internal power switch. Capacitively bypass the pin to ground.", 2 RUN (in) "The Run pin is used to put the LT3663 into shutdown mode. Tie to ground to shut down the LT3663. Tie to 2.5V or more for normal operation. If the shutdown feature is not used, connect this pin to VIN.", 3 VOUTS (in) "Output Voltage Sense Pin. Connect to the positive terminal of the output capacitor.", 4 ILIM (in) "Output Current Limit Program Pin. Connect a resistor to ground to program the regulator output current limit.", 5 VOUT (power) "The VOUT pin is connected to the negative terminal of the internal output current limit sense resistor.", 6 ISENSE (in) "The ISENSE pin is the positive input to the internal output current limit sense resistor. The ISENSE pin is also the anode to the internal BOOST diode.", 7 BOOST "The BOOST pin is used to provide a drive voltage, higher than the input voltage, to the internal power switch. The BOOST pin is also internally connected to the cathode of the BOOST diode.", 8 SW "The SW pin is the output of the internal power switch. Connect this pin to the inductor, catch diode and boost capacitor.", 9 EP (power) "Ground. The exposed pad must be soldered to the PCB and electrically connected to ground. Use a large ground plane and thermal vias to optimize thermal performance."

## LT3663IDCB#PBF
designator U?
1.2 A, 1.5 MHz Step-Down Switching Regulator with Output Current Limit, 7 to 36 V Vin, 5.5 V Vout MAX, 8-pin SON (DCB-8), -40 to 125 degC, Pb-Free; Manufacturer: Linear Technology; PartNumber: LT3663IDCB#PBF; Output Current(A): 1.2; Topology: Buck; DatasheetVersion: Rev. C; PackageVersion: Rev. A, 06/2010; PackageReference: DCB-8; PackageDescription: 8-Pin Plastic DFN, Body 2 x 3 mm, Pitch 0.45 mm; Supplier 1: Newark; Supplier Part Number 1: 78T4037; RoHS: TRUE; Mounting Technology: Surface Mount; ComponentLink1Description: Manufacturer URL; ComponentLink1URL: http://www.linear.com/; ComponentLink2Description: Datasheet; ComponentLink2URL: http://cds.linear.com/docs/en/datasheet/3663fc.pdf; ComponentLink3Description: Package Specification; ComponentLink3URL: http://cds.linear.com/docs/en/packaging/DFN_8_05-08-1718.pdf
footprint LT-DCB-8_V (SON, 8-Leads, Body 3x2mm, Pitch 0.45mm, Thermal Pad 1.65x1.35mm)
pins: 1 VIN (power) "The VIN pin supplies current to the LT3663’s internal regulator and internal power switch. Capacitively bypass the pin to ground.", 2 RUN (in) "The Run pin is used to put the LT3663 into shutdown mode. Tie to ground to shut down the LT3663. Tie to 2.5V or more for normal operation. If the shutdown feature is not used, connect this pin to VIN.", 3 FB (in) "The LT3663 regulates the FB pin to 0.8V. Connect the feedback resistor divider tap to this pin.", 4 ILIM (in) "Output Current Limit Program Pin. Connect a resistor to ground to program the regulator output current limit.", 5 VOUT (power) "The VOUT pin is connected to the negative terminal of the internal output current limit sense resistor.", 6 ISENSE (in) "The ISENSE pin is the positive input to the internal output current limit sense resistor. The ISENSE pin is also the anode to the internal BOOST diode.", 7 BOOST "The BOOST pin is used to provide a drive voltage, higher than the input voltage, to the internal power switch. The BOOST pin is also internally connected to the cathode of the BOOST diode.", 8 SW "The SW pin is the output of the internal power switch. Connect this pin to the inductor, catch diode and boost capacitor.", 9 EP (power) "Ground. The exposed pad must be soldered to the PCB and electrically connected to ground. Use a large ground plane and thermal vias to optimize thermal performance."

## LT3663IDCB#TRMPBF
designator U?
1.2 A, 1.5 MHz Step-Down Switching Regulator with Output Current Limit, 7 to 36 V Vin, 5.5 V Vout MAX, 8-pin SON (DCB-8), -40 to 125 degC, Pb-Free, Mini Tape and Reel; Manufacturer: Linear Technology; PartNumber: LT3663IDCB#TRMPBF; Output Current(A): 1.2; Topology: Buck; DatasheetVersion: Rev. C; PackageVersion: Rev. A, 06/2010; PackageReference: DCB-8; PackageDescription: 8-Pin Plastic DFN, Body 2 x 3 mm, Pitch 0.45 mm; Supplier 1: Digi-Key; Supplier Part Number 1: LT3663IDCB#TRMPBF-ND; Packing: Mini Tape and Reel; RoHS: TRUE; Mounting Technology: Surface Mount; ComponentLink1Description: Manufacturer URL; ComponentLink1URL: http://www.linear.com/; ComponentLink2Description: Datasheet; ComponentLink2URL: http://cds.linear.com/docs/en/datasheet/3663fc.pdf; ComponentLink3Description: Package Specification; ComponentLink3URL: http://cds.linear.com/docs/en/packaging/DFN_8_05-08-1718.pdf
footprint LT-DCB-8_V (SON, 8-Leads, Body 3x2mm, Pitch 0.45mm, Thermal Pad 1.65x1.35mm)
pins: 1 VIN (power) "The VIN pin supplies current to the LT3663’s internal regulator and internal power switch. Capacitively bypass the pin to ground.", 2 RUN (in) "The Run pin is used to put the LT3663 into shutdown mode. Tie to ground to shut down the LT3663. Tie to 2.5V or more for normal operation. If the shutdown feature is not used, connect this pin to VIN.", 3 FB (in) "The LT3663 regulates the FB pin to 0.8V. Connect the feedback resistor divider tap to this pin.", 4 ILIM (in) "Output Current Limit Program Pin. Connect a resistor to ground to program the regulator output current limit.", 5 VOUT (power) "The VOUT pin is connected to the negative terminal of the internal output current limit sense resistor.", 6 ISENSE (in) "The ISENSE pin is the positive input to the internal output current limit sense resistor. The ISENSE pin is also the anode to the internal BOOST diode.", 7 BOOST "The BOOST pin is used to provide a drive voltage, higher than the input voltage, to the internal power switch. The BOOST pin is also internally connected to the cathode of the BOOST diode.", 8 SW "The SW pin is the output of the internal power switch. Connect this pin to the inductor, catch diode and boost capacitor.", 9 EP (power) "Ground. The exposed pad must be soldered to the PCB and electrically connected to ground. Use a large ground plane and thermal vias to optimize thermal performance."

## LT3663IDCB#TRPBF
designator U?
1.2 A, 1.5 MHz Step-Down Switching Regulator with Output Current Limit, 7 to 36 V Vin, 5.5 V Vout MAX, 8-pin SON (DCB-8), -40 to 125 degC, Pb-Free, Tape and Reel; Manufacturer: Linear Technology; PartNumber: LT3663IDCB#TRPBF; Output Current(A): 1.2; Topology: Buck; DatasheetVersion: Rev. C; PackageVersion: Rev. A, 06/2010; PackageReference: DCB-8; PackageDescription: 8-Pin Plastic DFN, Body 2 x 3 mm, Pitch 0.45 mm; Supplier 1: Digi-Key; Supplier Part Number 1: LT3663IDCB#TRPBF-ND; Packing: Tape and Reel; RoHS: TRUE; Mounting Technology: Surface Mount; ComponentLink1Description: Manufacturer URL; ComponentLink1URL: http://www.linear.com/; ComponentLink2Description: Datasheet; ComponentLink2URL: http://cds.linear.com/docs/en/datasheet/3663fc.pdf; ComponentLink3Description: Package Specification; ComponentLink3URL: http://cds.linear.com/docs/en/packaging/DFN_8_05-08-1718.pdf
footprint LT-DCB-8_V (SON, 8-Leads, Body 3x2mm, Pitch 0.45mm, Thermal Pad 1.65x1.35mm)
pins: 1 VIN (power) "The VIN pin supplies current to the LT3663’s internal regulator and internal power switch. Capacitively bypass the pin to ground.", 2 RUN (in) "The Run pin is used to put the LT3663 into shutdown mode. Tie to ground to shut down the LT3663. Tie to 2.5V or more for normal operation. If the shutdown feature is not used, connect this pin to VIN.", 3 FB (in) "The LT3663 regulates the FB pin to 0.8V. Connect the feedback resistor divider tap to this pin.", 4 ILIM (in) "Output Current Limit Program Pin. Connect a resistor to ground to program the regulator output current limit.", 5 VOUT (power) "The VOUT pin is connected to the negative terminal of the internal output current limit sense resistor.", 6 ISENSE (in) "The ISENSE pin is the positive input to the internal output current limit sense resistor. The ISENSE pin is also the anode to the internal BOOST diode.", 7 BOOST "The BOOST pin is used to provide a drive voltage, higher than the input voltage, to the internal power switch. The BOOST pin is also internally connected to the cathode of the BOOST diode.", 8 SW "The SW pin is the output of the internal power switch. Connect this pin to the inductor, catch diode and boost capacitor.", 9 EP (power) "Ground. The exposed pad must be soldered to the PCB and electrically connected to ground. Use a large ground plane and thermal vias to optimize thermal performance."